# EAGLE library part USB2640 (library BaseApp)
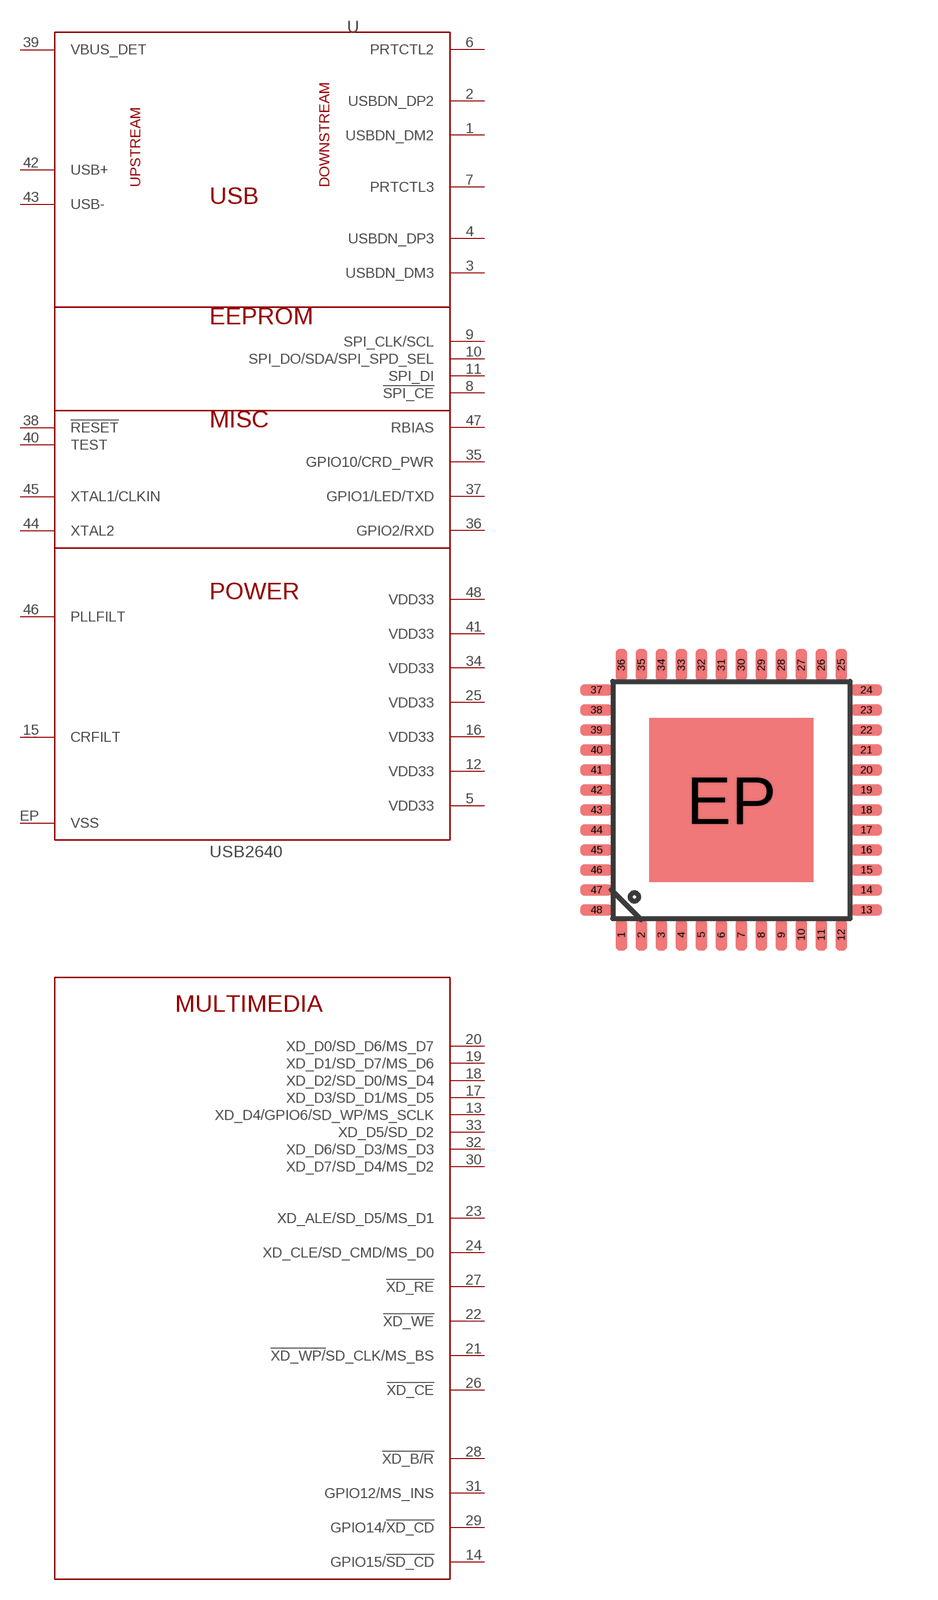
[diagram p55: symbol with the pads of 48QFN; footprint 48QFN]

Designator prefix -

## USB2640 (DIGIKEY: USB2640-HZH-02-ND; PRICE_PER_UNIT: 3.82)  [48QFN]
1  USBDN_DM2
2  USBDN_DP2
3  USBDN_DM3
4  USBDN_DP3
5  VDD33
6  PRTCTL2
7  PRTCTL3
8  !SPI_CE
9  SPI_CLK/SCL
10  SPI_DO/SDA/SPI_SPD_SEL
11  SPI_DI
12  VDD33
13  XD_D4/GPIO6/SD_WP/MS_SCLK
14  GPIO15/!SD_CD
15  CRFILT
16  VDD33
17  XD_D3/SD_D1/MS_D5
18  XD_D2/SD_D0/MS_D4
19  XD_D1/SD_D7/MS_D6
20  XD_D0/SD_D6/MS_D7
21  !XD_WP/!SD_CLK/MS_BS
22  !XD_WE
23  XD_ALE/SD_D5/MS_D1
24  XD_CLE/SD_CMD/MS_D0
25  VDD33
26  !XD_CE
27  !XD_RE
28  !XD_B/R
29  GPIO14/!XD_CD
30  XD_D7/SD_D4/MS_D2
31  GPIO12/MS_INS
32  XD_D6/SD_D3/MS_D3
33  XD_D5/SD_D2
34  VDD33
35  GPIO10/CRD_PWR
36  GPIO2/RXD
37  GPIO1/LED/TXD
38  !RESET
39  VBUS_DET
40  TEST
41  VDD33
42  USB+
43  USB-
44  XTAL2
45  XTAL1/CLKIN
46  PLLFILT
47  RBIAS
48  VDD33
EP  VSS

## Footprint 48QFN (pad centres in mm)
smd 0.285 x 0.8: 1 -2.75,-3.375; 2 -2.25,-3.375; 3 -1.75,-3.375; 4 -1.25,-3.375; 5 -0.75,-3.375; 6 -0.25,-3.375; 7 0.25,-3.375; 8 0.75,-3.375; 9 1.25,-3.375; 10 1.75,-3.375; 11 2.25,-3.375; 12 2.75,-3.375; 25 2.75,3.375; 26 2.25,3.375; 27 1.75,3.375; 28 1.25,3.375; 29 0.75,3.375; 30 0.25,3.375; 31 -0.25,3.375; 32 -0.75,3.375; 33 -1.25,3.375; 34 -1.75,3.375; 35 -2.25,3.375; 36 -2.75,3.375
smd 0.8 x 0.285: 13 3.375,-2.75; 14 3.375,-2.25; 15 3.375,-1.75; 16 3.375,-1.25; 17 3.375,-0.75; 18 3.375,-0.25; 19 3.375,0.25; 20 3.375,0.75; 21 3.375,1.25; 22 3.375,1.75; 23 3.375,2.25; 24 3.375,2.75; 37 -3.375,2.75; 38 -3.375,2.25; 39 -3.375,1.75; 40 -3.375,1.25; 41 -3.375,0.75; 42 -3.375,0.25; 43 -3.375,-0.25; 44 -3.375,-0.75; 45 -3.375,-1.25; 46 -3.375,-1.75; 47 -3.375,-2.25; 48 -3.375,-2.75
smd 4.1 x 4.1: EP 0,0